# EAGLE library part ULTIMATE-GPS (library specialparts)
GPS Breakout Adafruit Ultimate GPS
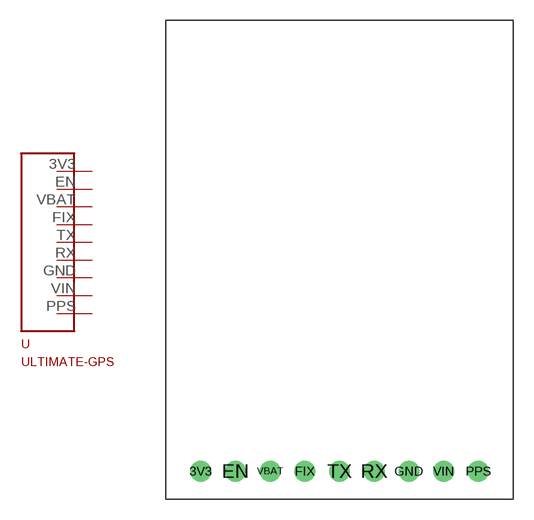
[diagram p3: symbol with the pads of GPS; footprint GPS]

Designator prefix -

## ULTIMATE-GPS  [GPS]
3V3  3V3
EN  EN
FIX  FIX
GND  GND
PPS  PPS
RX  RX
TX  TX
VBAT  VBAT
VIN  VIN

## Footprint GPS (pad centres in mm)
drill 1.016: 3V3 0,0; EN 2.54,0; FIX 7.62,0; GND 15.24,0; PPS 20.32,0; RX 12.7,0; TX 10.16,0; VBAT 5.08,0; VIN 17.78,0